# EAGLE library part CD4040 (library Deegou_IC)
CMOS Ripple-Carry Binary Counter/Dividers http://pdf1.alldatasheet.com/datasheet-pdf/view/26860/TI/CD4040B/+QWJ72UPGZwEB8N-h+/datasheet.pdf
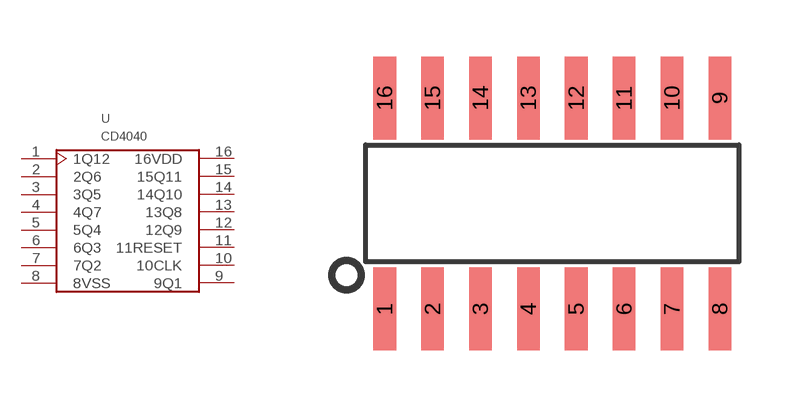
[diagram p125: symbol with the pads of SOIC16; footprint SOIC16]

Designator prefix U

## CD4040  [SOIC16]
1  1Q12
2  2Q6
3  3Q5
4  4Q7
5  5Q4
6  6Q3
7  7Q2
8  8VSS
9  9Q1
10  10CLK
11  11RESET
12  12Q9
13  13Q8
14  14Q10
15  15Q11
16  16VDD

## Footprint SOIC16 (pad centres in mm)
smd 0.6 x 2.2: 1 -4.445,-2.8; 2 -3.175,-2.8; 3 -1.905,-2.8; 4 -0.635,-2.8; 5 0.635,-2.8; 6 1.905,-2.8; 7 3.175,-2.8; 8 4.445,-2.8; 9 4.445,2.8; 10 3.175,2.8; 11 1.905,2.8; 12 0.635,2.8; 13 -0.635,2.8; 14 -1.905,2.8; 15 -3.175,2.8; 16 -4.445,2.8